# EAGLE library part 1X7 (library pimoroni)
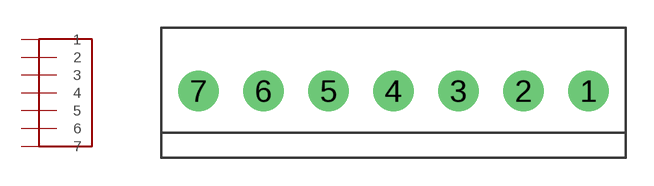
[diagram p8: symbol with the pads of 1X07-3.5MM; footprint 1X07-3.5MM]

Designator prefix J

## 1X71X7  [1X07-3.5MM]
1  1  pas
2  2  pas
3  3  pas
4  4  pas
5  5  pas
6  6  pas
7  7  pas

## Footprint 1X07-3.5MM (pad centres in mm)
Seven pin 3.5 screw terminal based on Adafruit's five pin version.
drill 1 pad 2.184: 1 10.5,0; 2 7,0; 3 3.5,0; 4 0,0; 5 -3.5,0; 6 -7,0; 7 -10.5,0